# Altium schematic symbol library RC0805FR-074K7L.SchLib: 1 symbol
Pins are listed as number, name and electrical type; pins without a type are passive.

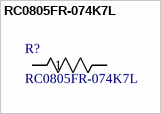
[diagram p0: symbol RC0805FR-074K7L]

## RC0805FR-074K7L
designator R?
RES SMD 4.7 k? 1% 1/8W 0805; Manufacturer_Name: Yageo; Copyright: Copyright (C) 2025 Ultra Librarian. All rights reserved.; Manufacturer_Part_Number: RC0805FR-074K7L
footprint RES_RC0805_YAG
pins: 1, 2